# Altium footprint library Con 050 DSubminiature.PcbLib: 112 footprints (part 1 of 7)
Each footprint in its own frame and in the unit in brackets; x right, y up, seen from the top. Pads: shape width x height; smd on the part's side, far side on the other; paste and mask are expansions set on the pad; w line width, h text height; cw(c..) or ccw(c..) is an arc to the next point about the centre after c.
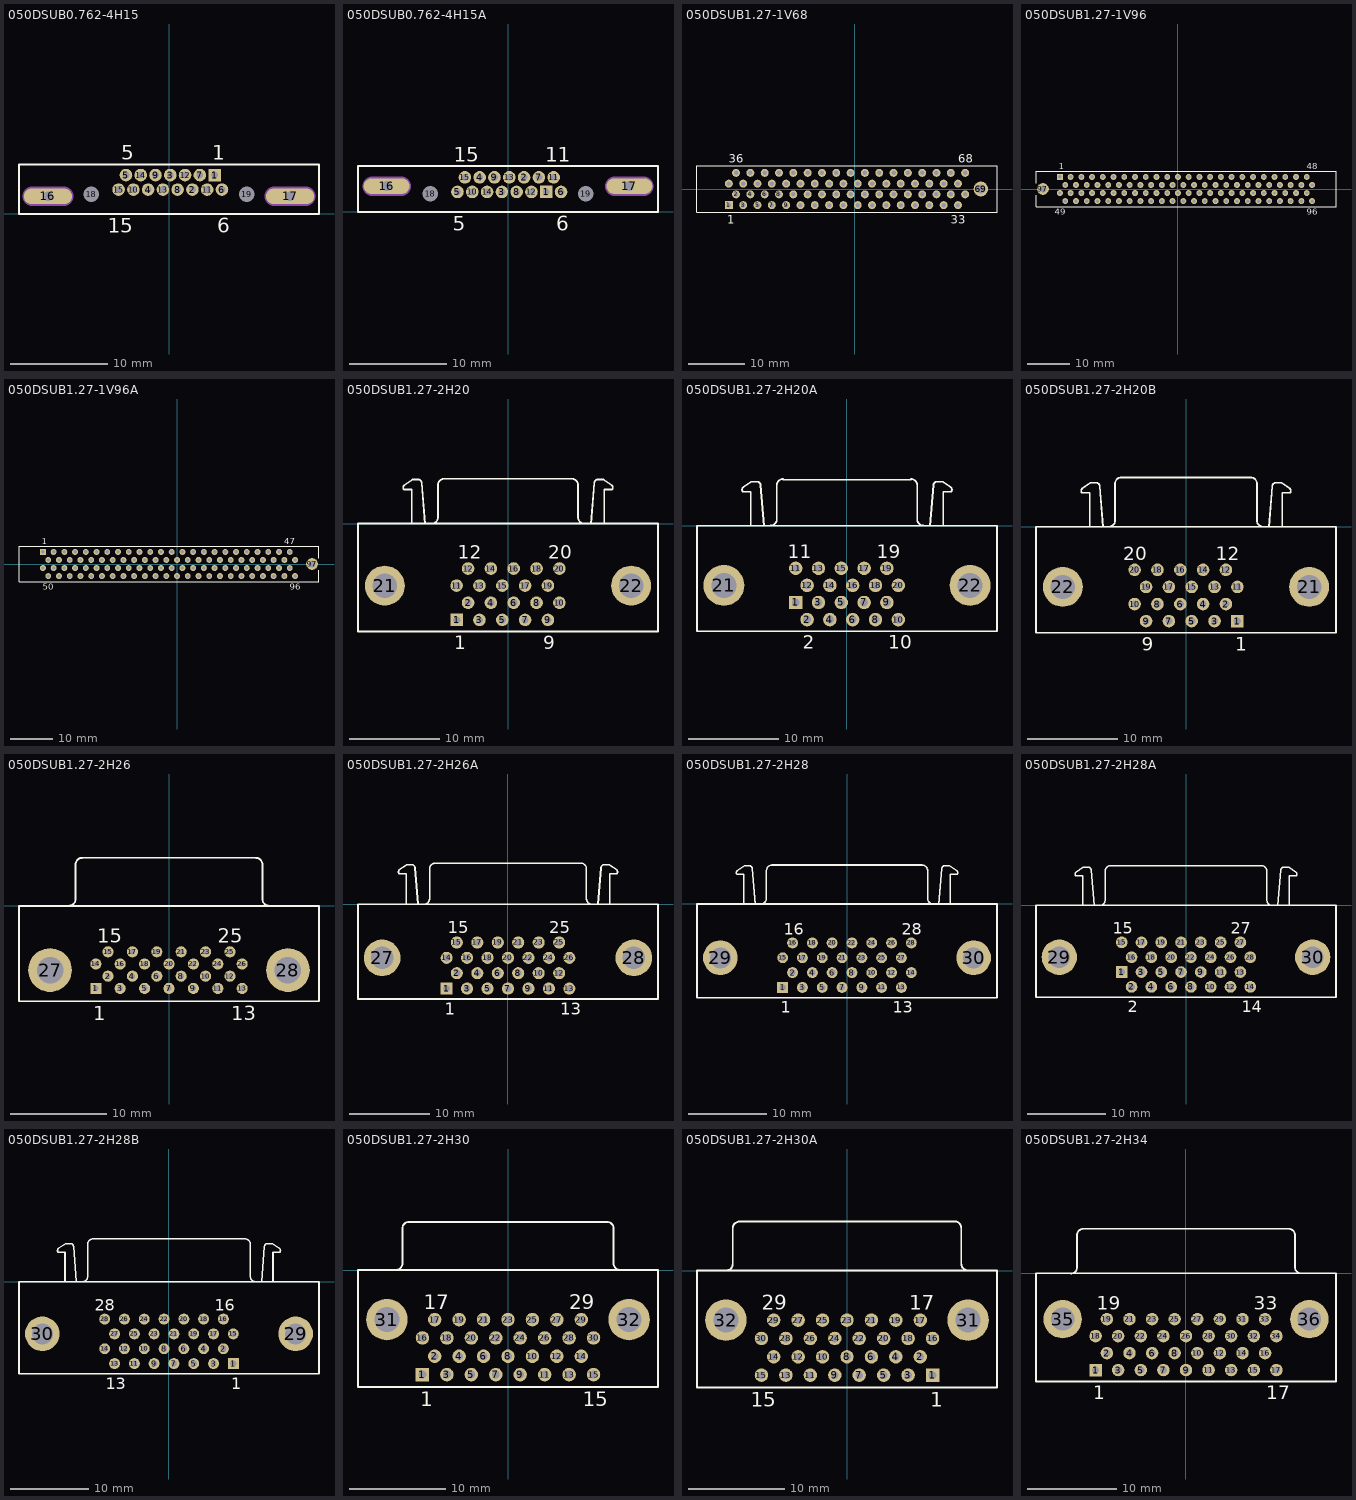
[diagram p0: the footprints below, top view; thin cyan lines are the x and y axes]

## 050DSUB0.762-4H15 [mm] "Connector; D Subminiature 050 Series; 15 Position; Right Angle"
height 12.65
pads (19):
  rect 1.3x1.3 hole 0.7: 1(4.703,4)
  round 1.3 hole 0.7: 2(2.417,2.5) 3(0.131,4) 4(-2.155,2.5) 5(-4.441,4) 6(5.465,2.5) 7(3.179,4) 8(0.893,2.5) 9(-1.393,4) 10(-3.679,2.5) 11(3.941,2.5) 12(1.655,4) 13(-0.631,2.5) 14(-2.917,4) 15(-5.203,2.5)
  oval 5x1.6 hole 1: 16(-12.495,1.8) 17(12.495,1.8)
  round 1.3 hole 1.6: 18(-8,2) 19(8,2)
Top Overlay:
  lines w0.2: -15.48,0 15.48,0 15.48,5.1 -15.48,5.1 -15.48,0
  text "15" at -6.328,-1.975 h1.5
  text "6" at 4.965,-1.975 h1.5
  text "1" at 4.453,5.6 h1.5
  text "5" at -4.941,5.6 h1.5
Mechanical 1:
  lines w1.2: -14.12,1.8 -10.87,1.8 ; 10.87,1.8 14.12,1.8
  text "Alert PCB fab to slot details" at -15.505,-1.17 h0.3
  text "Slot 1.2x4.45mm, PTH" at -15.505,-1.67 h0.3
  text "Assign keep-out area to slot" at -15.505,-0.67 h0.3
  text "Mech 1 - Slot cut-out" at -15.505,-2.17 h0.3
  text "Mech 2 - Clearance, move to internal plane if present" at -15.505,-2.67 h0.3
Mechanical 2:
  lines w2.016: -14.12,1.8 -10.87,1.8 ; 10.87,1.8 14.12,1.8

## 050DSUB0.762-4H15A [mm] "Connector; D Subminiature 050 Series; 15 Position; Right Angle"
height 12.57
pads (19):
  rect 1.3x1.3 hole 0.7: 1(3.941,2.05)
  round 1.3 hole 0.7: 2(1.655,3.55) 3(-0.631,2.05) 4(-2.917,3.55) 5(-5.203,2.05) 6(5.465,2.05) 7(3.179,3.55) 8(0.893,2.05) 9(-1.393,3.55) 10(-3.679,2.05) 11(4.703,3.55) 12(2.417,2.05) 13(0.131,3.55) 14(-2.155,2.05) 15(-4.441,3.55)
  oval 4.75x1.6 hole 1: 16(-12.495,2.65) 17(12.495,2.65)
  round 1.3 hole 1.6: 18(-7.986,1.85) 19(7.994,1.85)
Top Overlay:
  lines w0.2: -15.45,0 15.45,0 15.45,4.7 -15.45,4.7 -15.45,0
  text "5" at -5.703,-1.975 h1.5
  text "6" at 4.965,-1.975 h1.5
  text "15" at -5.566,5.175 h1.5
  text "11" at 3.828,5.175 h1.5
Mechanical 1:
  lines w1.2: -13.995,2.65 -10.995,2.65 ; 10.995,2.65 13.995,2.65
  text "Alert PCB fab to slot details" at -15.491,-1.32 h0.3
  text "Slot 1.2x4.2mm, PTH" at -15.491,-1.82 h0.3
  text "Assign keep-out area to slot" at -15.491,-0.82 h0.3
  text "Mech 1 - Slot cut-out" at -15.491,-2.32 h0.3
  text "Mech 2 - Clearance, move to internal plane if present" at -15.491,-2.82 h0.3
Mechanical 2:
  lines w2.016: -13.995,2.65 -10.995,2.65 ; 10.995,2.65 13.995,2.65

## 050DSUB1.27-1V68 [mm]
pads (69):
  rect 1.4x1.4 hole 0.8: 1(-22.35,-2.857)
  round 1.4 hole 0.8: 2(-21.08,-0.953) 3(-19.81,-2.857) 4(-18.54,-0.953) 5(-17.27,-2.857) 6(-16,-0.953) 7(-14.73,-2.857) 8(-13.46,-0.953) 9(-12.19,-2.857) 10(-10.92,-0.953) 11(-9.65,-2.857) 12(-8.38,-0.953) 13(-7.11,-2.857) 14(-5.84,-0.953) 15(-4.57,-2.857) 16(-3.3,-0.953) 17(-2.03,-2.857) 18(-0.76,-0.953) 19(0.51,-2.857) 20(1.78,-0.953) 21(3.05,-2.857) 22(4.32,-0.953) 23(5.59,-2.857) 24(6.86,-0.953) 25(8.13,-2.857) 26(9.4,-0.953) 27(10.67,-2.857) 28(11.94,-0.953) 29(13.21,-2.857) 30(14.48,-0.953) 31(15.75,-2.857) 32(17.02,-0.953) 33(18.29,-2.857) 34(19.56,-0.953) 35(-22.35,0.953) 36(-21.08,2.857) 37(-19.81,0.953) 38(-18.54,2.857) 39(-17.27,0.953) 40(-16,2.857) 41(-14.73,0.953) 42(-13.46,2.857) 43(-12.19,0.953) 44(-10.92,2.857) 45(-9.65,0.953) 46(-8.38,2.857) 47(-7.11,0.953) 48(-5.84,2.857) 49(-4.57,0.953) 50(-3.3,2.857) 51(-2.03,0.953) 52(-0.76,2.857) 53(0.51,0.953) 54(1.78,2.857) 55(3.05,0.953) 56(4.32,2.857) 57(5.59,0.953) 58(6.86,2.857) 59(8.13,0.953) 60(9.4,2.857) 61(10.67,0.953) 62(11.94,2.857) 63(13.21,0.953) 64(14.48,2.857) 65(15.75,0.953) 66(17.02,2.857) 67(18.29,0.953) 68(19.56,2.857)
  round 2.6 hole 1.65: 69(22.35,0)
Top Overlay:
  lines w0.2: -28.005,-4.157 -28.005,4.157 25.215,4.157 25.215,-4.157 -28.005,-4.157
  text "36" at -22.33,4.633 h1.5
  text "1" at -22.6,-6.132 h1.5
  text "33" at 17.04,-6.132 h1.5
  text "68" at 18.31,4.633 h1.5

## 050DSUB1.27-1V96 [mm] "Connector; D Subminiature 050 Series; 96 Position; Vertical"
height 9.5
pads (97):
  rect 1.4x1.4 hole 0.8: 1(-27.845,2.857)
  round 1.4 hole 0.8: 2(-26.575,0.953) 3(-25.305,2.857) 4(-24.035,0.953) 5(-22.765,2.857) 6(-21.495,0.953) 7(-20.225,2.857) 8(-18.955,0.953) 9(-17.685,2.857) 10(-16.415,0.953) 11(-15.145,2.857) 12(-13.875,0.953) 13(-12.605,2.857) 14(-11.335,0.953) 15(-10.065,2.857) 16(-8.795,0.953) 17(-7.525,2.857) 18(-6.255,0.953) 19(-4.985,2.857) 20(-3.715,0.953) 21(-2.445,2.857) 22(-1.175,0.953) 23(0.095,2.857) 24(1.365,0.953) 25(2.635,2.857) 26(3.905,0.953) 27(5.175,2.857) 28(6.445,0.953) 29(7.715,2.857) 30(8.985,0.953) 31(10.255,2.857) 32(11.525,0.953) 33(12.795,2.857) 34(14.065,0.953) 35(15.335,2.857) 36(16.605,0.953) 37(17.875,2.857) 38(19.145,0.953) 39(20.415,2.857) 40(21.685,0.953) 41(22.955,2.857) 42(24.225,0.953) 43(25.495,2.857) 44(26.765,0.953) 45(28.035,2.857) 46(29.305,0.953) 47(30.575,2.857) 48(31.845,0.953) 49(-27.845,-0.953) 50(-26.575,-2.857) 51(-25.305,-0.953) 52(-24.035,-2.857) 53(-22.765,-0.953) 54(-21.495,-2.857) 55(-20.225,-0.953) 56(-18.955,-2.857) 57(-17.685,-0.953) 58(-16.415,-2.857) 59(-15.145,-0.953) 60(-13.875,-2.857) 61(-12.605,-0.953) 62(-11.335,-2.857) 63(-10.065,-0.953) 64(-8.795,-2.857) 65(-7.525,-0.953) 66(-6.255,-2.857) 67(-4.985,-0.953) 68(-3.715,-2.857) 69(-2.445,-0.953) 70(-1.175,-2.857) 71(0.095,-0.953) 72(1.365,-2.857) 73(2.635,-0.953) 74(3.905,-2.857) 75(5.175,-0.953) 76(6.445,-2.857) 77(7.715,-0.953) 78(8.985,-2.857) 79(10.255,-0.953) 80(11.525,-2.857) 81(12.795,-0.953) 82(14.065,-2.857) 83(15.335,-0.953) 84(16.605,-2.857) 85(17.875,-0.953) 86(19.145,-2.857) 87(20.415,-0.953) 88(21.685,-2.857) 89(22.955,-0.953) 90(24.225,-2.857) 91(25.495,-0.953) 92(26.765,-2.857) 93(28.035,-0.953) 94(29.305,-2.857) 95(30.575,-0.953) 96(31.845,-2.857)
  round 2.8 hole 1.7: 97(-31.845,0)
Top Overlay:
  lines w0.2: -33.5,-1.45 -33.5,-4.157 37.5,-4.157 37.5,4.157 -33.5,4.157 -33.5,1.411
  text "49" at -29.095,-6.132 h1.5
  text "1" at -28.095,4.633 h1.5
  text "48" at 30.595,4.633 h1.5
  text "96" at 30.595,-6.132 h1.5

## 050DSUB1.27-1V96A [mm] "Connector; D Subminiature 050 Series; 96 Position; Vertical"
height 9.5
pads (97):
  rect 1.4x1.4 hole 0.8: 1(-31.845,2.857)
  round 1.4 hole 0.8: 2(-30.575,0.953) 3(-29.305,2.857) 4(-28.035,0.953) 5(-26.765,2.857) 6(-25.495,0.953) 7(-24.225,2.857) 8(-22.955,0.953) 9(-21.685,2.857) 10(-20.415,0.953) 11(-19.145,2.857) 12(-17.875,0.953) 13(-16.605,2.857) 14(-15.335,0.953) 15(-14.065,2.857) 16(-12.795,0.953) 17(-11.525,2.857) 18(-10.255,0.953) 19(-8.985,2.857) 20(-7.715,0.953) 21(-6.445,2.857) 22(-5.175,0.953) 23(-3.905,2.857) 24(-2.635,0.953) 25(-1.365,2.857) 26(-0.095,0.953) 27(1.175,2.857) 28(2.445,0.953) 29(3.715,2.857) 30(4.985,0.953) 31(6.255,2.857) 32(7.525,0.953) 33(8.795,2.857) 34(10.065,0.953) 35(11.335,2.857) 36(12.605,0.953) 37(13.875,2.857) 38(15.145,0.953) 39(16.415,2.857) 40(17.685,0.953) 41(18.955,2.857) 42(20.225,0.953) 43(21.495,2.857) 44(22.765,0.953) 45(24.035,2.857) 46(25.305,0.953) 47(26.575,2.857) 48(27.845,0.953) 49(-31.845,-0.953) 50(-30.575,-2.857) 51(-29.305,-0.953) 52(-28.035,-2.857) 53(-26.765,-0.953) 54(-25.495,-2.857) 55(-24.225,-0.953) 56(-22.955,-2.857) 57(-21.685,-0.953) 58(-20.415,-2.857) 59(-19.145,-0.953) 60(-17.875,-2.857) 61(-16.605,-0.953) 62(-15.335,-2.857) 63(-14.065,-0.953) 64(-12.795,-2.857) 65(-11.525,-0.953) 66(-10.255,-2.857) 67(-8.985,-0.953) 68(-7.715,-2.857) 69(-6.445,-0.953) 70(-5.175,-2.857) 71(-3.905,-0.953) 72(-2.635,-2.857) 73(-1.365,-0.953) 74(-0.095,-2.857) 75(1.175,-0.953) 76(2.445,-2.857) 77(3.715,-0.953) 78(4.985,-2.857) 79(6.255,-0.953) 80(7.525,-2.857) 81(8.795,-0.953) 82(10.065,-2.857) 83(11.335,-0.953) 84(12.605,-2.857) 85(13.875,-0.953) 86(15.145,-2.857) 87(16.415,-0.953) 88(17.685,-2.857) 89(18.955,-0.953) 90(20.225,-2.857) 91(21.495,-0.953) 92(22.765,-2.857) 93(24.035,-0.953) 94(25.305,-2.857) 95(26.575,-0.953) 96(27.845,-2.857)
  round 2.8 hole 1.7: 97(31.845,0)
Top Overlay:
  lines w0.2: 33.5,-1.45 33.5,-4.157 -37.5,-4.157 -37.5,4.157 33.5,4.157 33.5,1.411
  text "47" at 25.325,4.633 h1.5
  text "50" at -31.825,-6.132 h1.5
  text "96" at 26.595,-6.132 h1.5
  text "1" at -32.095,4.633 h1.5

## 050DSUB1.27-2H20 [mm] "Connector; D Subminiature 050 Series; 20 Position; Right Angle"
height 10.55
pads (22):
  rect 1.4x1.4 hole 0.8: 1(-5.715,-10.715)
  round 1.4 hole 0.8: 2(-4.445,-8.81) 3(-3.175,-10.715) 4(-1.905,-8.81) 5(-0.635,-10.715) 6(0.635,-8.81) 7(1.905,-10.715) 8(3.175,-8.81) 9(4.445,-10.715) 10(5.715,-8.81) 11(-5.715,-6.905) 12(-4.445,-5) 13(-3.175,-6.905) 14(-1.905,-5) 15(-0.635,-6.905) 16(0.635,-5) 17(1.905,-6.905) 18(3.175,-5) 19(4.445,-6.905) 20(5.715,-5)
  round 4.45 hole 2.7: 21(-13.715,-6.905) 22(13.715,-6.905)
Top Overlay:
  lines w0.2: -11.575,4.27 -10.635,4.898 -9.913,4.898 cw(c-10.015,4.5) -9.605,4.5 ; -11.561,4.255 ccw(c-11.335,4.01) -11.585,3.79 -10.705,3.79 -10.705,0 ; -9.605,4.52 -9.235,0 ; -8.495,0.005 ccw(c-8.495,0.7) -7.8,0.7 -7.8,4.3 cw(c-7.105,4.3) -7.105,4.995 ; -7.105,5 7.105,5 ; 7.105,4.995 cw(c7.105,4.3) 7.8,4.3 7.8,0.7 ccw(c8.495,0.7) 8.495,0.005 ; 9.235,0 9.605,4.52 ; 9.605,4.5 cw(c10.015,4.5) 9.913,4.898 10.635,4.898 11.575,4.27 ; 10.705,0 10.705,3.79 11.585,3.79 ccw(c11.335,4.01) 11.561,4.255 ; -16.7,-12.015 -16.7,0 16.7,0 16.7,-12.015 -16.7,-12.015
  text "20" at 4.465,-3.925 h1.5
  text "12" at -5.57,-3.925 h1.5
  text "9" at 3.945,-13.99 h1.5
  text "1" at -5.965,-13.99 h1.5

## 050DSUB1.27-2H20A [mm] "Connector; D Subminiature 050 Series; 20 Position; Right Angle"
height 10.44
pads (22):
  rect 1.5x1.5 hole 0.86: 1(-5.715,-8.555)
  round 1.5 hole 0.86: 2(-4.445,-10.46) 3(-3.175,-8.555) 4(-1.905,-10.46) 5(-0.635,-8.555) 6(0.635,-10.46) 7(1.905,-8.555) 8(3.175,-10.46) 9(4.445,-8.555) 10(5.715,-10.46) 11(-5.715,-4.745) 12(-4.445,-6.65) 13(-3.175,-4.745) 14(-1.905,-6.65) 15(-0.635,-4.745) 16(0.635,-6.65) 17(1.905,-4.745) 18(3.175,-6.65) 19(4.445,-4.745) 20(5.715,-6.65)
  round 4.55 hole 2.77: 21(-13.715,-6.65) 22(13.715,-6.65)
Top Overlay:
  lines w0.2: -11.6,4.27 -10.66,4.898 -9.938,4.898 cw(c-10.04,4.5) -9.63,4.5 ; -11.586,4.255 ccw(c-11.36,4.01) -11.61,3.79 -10.73,3.79 -10.73,0 ; -9.63,4.52 -9.26,0 ; -8.52,0.005 ccw(c-8.52,0.7) -7.825,0.7 -7.825,4.5 ; -7.82,4.505 cw(c-7.125,4.505) -7.125,5.2 ; -7.125,5.11 7.125,5.11 ; 7.125,5.2 cw(c7.125,4.505) 7.82,4.505 ; 7.825,4.5 7.825,0.7 ccw(c8.52,0.7) 8.52,0.005 ; 9.26,0 9.63,4.52 ; 9.63,4.5 cw(c10.04,4.5) 9.938,4.898 10.66,4.898 11.6,4.27 ; 10.73,0 10.73,3.79 11.61,3.79 ccw(c11.36,4.01) 11.586,4.255 ; -16.71,-11.76 -16.71,0 16.71,0 16.71,-11.76 -16.71,-11.76
  text "2" at -4.945,-13.735 h1.5
  text "11" at -6.59,-3.62 h1.5
  text "19" at 3.32,-3.62 h1.5
  text "10" at 4.59,-13.735 h1.5

## 050DSUB1.27-2H20B [mm] "Connector; D Subminiature 050 Series; 20 Position; Right Angle"
height 10.55
pads (22):
  rect 1.4x1.4 hole 0.8: 1(5.715,-10.5)
  round 1.4 hole 0.8: 2(4.445,-8.595) 3(3.175,-10.5) 4(1.905,-8.595) 5(0.635,-10.5) 6(-0.635,-8.595) 7(-1.905,-10.5) 8(-3.175,-8.595) 9(-4.445,-10.5) 10(-5.715,-8.595) 11(5.715,-6.69) 12(4.445,-4.785) 13(3.175,-6.69) 14(1.905,-4.785) 15(0.635,-6.69) 16(-0.635,-4.785) 17(-1.905,-6.69) 18(-3.175,-4.785) 19(-4.445,-6.69) 20(-5.715,-4.785)
  round 4.45 hole 2.7: 21(13.715,-6.69) 22(-13.715,-6.69)
Top Overlay:
  lines w0.2: -11.575,4.27 -10.635,4.898 -9.913,4.898 cw(c-10.015,4.5) -9.605,4.5 ; -11.561,4.255 ccw(c-11.335,4.01) -11.585,3.79 -10.705,3.79 -10.705,0 ; -9.605,4.52 -9.235,0 ; -8.595,0.005 ccw(c-8.595,0.7) -7.9,0.7 -7.9,4.805 cw(c-7.205,4.805) -7.205,5.5 7.205,5.5 cw(c7.205,4.805) 7.9,4.805 7.9,0.7 ccw(c8.595,0.7) 8.595,0.005 ; 9.235,0 9.605,4.52 ; 9.605,4.5 cw(c10.015,4.5) 9.913,4.898 10.635,4.898 11.575,4.27 ; 10.705,0 10.705,3.79 11.585,3.79 ccw(c11.335,4.01) 11.561,4.255 ; -16.7,-11.8 -16.7,0 16.7,0 16.7,-11.8 -16.7,-11.8
  text "20" at -6.965,-3.71 h1.5
  text "12" at 3.32,-3.71 h1.5
  text "9" at -4.945,-13.775 h1.5
  text "1" at 5.465,-13.775 h1.5

## 050DSUB1.27-2H26 [mm] "Connector; D Subminiature 050 Series; 26 Position; Right Angle"
height 8.56
pads (28):
  rect 1.16x1.16 hole 0.56: 1(-7.62,-8.59)
  round 1.16 hole 0.56: 2(-6.35,-7.32) 3(-5.08,-8.59) 4(-3.81,-7.32) 5(-2.54,-8.59) 6(-1.27,-7.32) 7(0,-8.59) 8(1.27,-7.32) 9(2.54,-8.59) 10(3.81,-7.32) 11(5.08,-8.59) 12(6.35,-7.32) 13(7.62,-8.59) 14(-7.62,-6.05) 15(-6.35,-4.78) 16(-5.08,-6.05) 17(-3.81,-4.78) 18(-2.54,-6.05) 19(-1.27,-4.78) 20(0,-6.05) 21(1.27,-4.78) 22(2.54,-6.05) 23(3.81,-4.78) 24(5.08,-6.05) 25(6.35,-4.78) 26(7.62,-6.05)
  round 4.55 hole 2.77: 27(-12.385,-6.685) 28(12.385,-6.685)
Top Overlay:
  lines w0.2: -10.425,0.015 ccw(c-10.425,0.71) -9.73,0.71 -9.73,4.31 cw(c-9.035,4.31) -9.035,5.005 ; -9.035,5.01 9.035,5.01 ; 9.035,5.005 cw(c9.035,4.31) 9.73,4.31 9.73,0.71 ccw(c10.425,0.71) 10.425,0.015 ; -15.62,-9.93 -15.62,0 15.62,0 15.62,-9.93 -15.62,-9.93
  text "1" at -7.87,-11.905 h1.5
  text "13" at 6.495,-11.905 h1.5
  text "15" at -7.475,-3.825 h1.5
  text "25" at 5.1,-3.825 h1.5

## 050DSUB1.27-2H26A [mm] "Connector; D Subminiature 050 Series; 26 Position; Right Angle"
height 10.44
pads (28):
  rect 1.5x1.5 hole 0.86: 1(-7.62,-10.46)
  round 1.5 hole 0.86: 2(-6.35,-8.555) 3(-5.08,-10.46) 4(-3.81,-8.555) 5(-2.54,-10.46) 6(-1.27,-8.555) 7(0,-10.46) 8(1.27,-8.555) 9(2.54,-10.46) 10(3.81,-8.555) 11(5.08,-10.46) 12(6.35,-8.555) 13(7.62,-10.46) 14(-7.62,-6.65) 15(-6.35,-4.745) 16(-5.08,-6.65) 17(-3.81,-4.745) 18(-2.54,-6.65) 19(-1.27,-4.745) 20(0,-6.65) 21(1.27,-4.745) 22(2.54,-6.65) 23(3.81,-4.745) 24(5.08,-6.65) 25(6.35,-4.745) 26(7.62,-6.65)
  round 4.55 hole 2.77: 27(-15.62,-6.65) 28(15.62,-6.65)
Top Overlay:
  lines w0.2: -13.505,4.27 -12.565,4.898 -11.843,4.898 cw(c-11.945,4.5) -11.535,4.5 ; -13.491,4.255 ccw(c-13.265,4.01) -13.515,3.79 -12.635,3.79 -12.635,0 ; -11.535,4.52 -11.165,0 ; -10.425,0.005 ccw(c-10.425,0.7) -9.73,0.7 -9.73,4.4 cw(c-9.035,4.4) -9.035,5.095 ; -9.035,5.11 9.035,5.11 ; 9.035,5.105 cw(c9.035,4.41) 9.73,4.41 9.73,0.7 ccw(c10.425,0.7) 10.425,0.005 ; 11.165,0 11.535,4.52 ; 11.535,4.5 cw(c11.945,4.5) 11.843,4.898 12.565,4.898 13.505,4.27 ; 12.635,0 12.635,3.79 13.515,3.79 ccw(c13.265,4.01) 13.491,4.255 ; -18.615,-11.76 -18.615,0 18.615,0 18.615,-11.76 -18.615,-11.76
  text "25" at 5.1,-3.62 h1.5
  text "15" at -7.475,-3.62 h1.5
  text "13" at 6.495,-13.735 h1.5
  text "1" at -7.87,-13.735 h1.5

## 050DSUB1.27-2H28 [mm] "Connector; D Subminiature 050 Series; 28 Position; Right Angle"
height 10.55
pads (30):
  rect 1.4x1.4 hole 0.8: 1(-8.255,-10.715)
  round 1.4 hole 0.8: 2(-6.985,-8.81) 3(-5.715,-10.715) 4(-4.445,-8.81) 5(-3.175,-10.715) 6(-1.905,-8.81) 7(-0.635,-10.715) 8(0.635,-8.81) 9(1.905,-10.715) 10(3.175,-8.81) 11(4.445,-10.715) 12(5.715,-8.81) 13(6.985,-10.715) 14(8.255,-8.81) 15(-8.255,-6.905) 16(-6.985,-5) 17(-5.715,-6.905) 18(-4.445,-5) 19(-3.175,-6.905) 20(-1.905,-5) 21(-0.635,-6.905) 22(0.635,-5) 23(1.905,-6.905) 24(3.175,-5) 25(4.445,-6.905) 26(5.715,-5) 27(6.985,-6.905) 28(8.255,-5)
  round 4.45 hole 2.7: 29(-16.255,-6.905) 30(16.255,-6.905)
Top Overlay:
  lines w0.2: -14.115,4.27 -13.175,4.898 -12.453,4.898 cw(c-12.555,4.5) -12.145,4.5 ; -14.101,4.255 ccw(c-13.875,4.01) -14.125,3.79 -13.245,3.79 -13.245,0 ; -12.145,4.52 -11.775,0 ; -11.035,0.005 ccw(c-11.035,0.7) -10.34,0.7 -10.34,4.305 ; -10.335,4.305 cw(c-9.64,4.305) -9.64,5 9.645,5 cw(c9.645,4.305) 10.34,4.305 10.34,0.7 ccw(c11.035,0.7) 11.035,0.005 ; 11.78,0 12.15,4.52 ; 12.15,4.5 cw(c12.56,4.5) 12.458,4.898 13.18,4.898 14.12,4.27 ; 13.25,0 13.25,3.79 14.13,3.79 ccw(c13.88,4.01) 14.106,4.255 ; -19.25,-12.015 -19.25,0 19.25,0 19.25,-12.015 -19.25,-12.015
  text "16" at -8.11,-3.925 h1.5
  text "28" at 7.005,-3.925 h1.5
  text "1" at -8.505,-13.99 h1.5
  text "13" at 5.86,-13.99 h1.5

## 050DSUB1.27-2H28A [mm] "Connector; D Subminiature 050 Series; 28 Position; Right Angle"
height 10.44
pads (30):
  rect 1.5x1.5 hole 0.86: 1(-8.255,-8.555)
  round 1.5 hole 0.86: 2(-6.985,-10.46) 3(-5.715,-8.555) 4(-4.445,-10.46) 5(-3.175,-8.555) 6(-1.905,-10.46) 7(-0.635,-8.555) 8(0.635,-10.46) 9(1.905,-8.555) 10(3.175,-10.46) 11(4.445,-8.555) 12(5.715,-10.46) 13(6.985,-8.555) 14(8.255,-10.46) 15(-8.255,-4.745) 16(-6.985,-6.65) 17(-5.715,-4.745) 18(-4.445,-6.65) 19(-3.175,-4.745) 20(-1.905,-6.65) 21(-0.635,-4.745) 22(0.635,-6.65) 23(1.905,-4.745) 24(3.175,-6.65) 25(4.445,-4.745) 26(5.715,-6.65) 27(6.985,-4.745) 28(8.255,-6.65)
  round 4.55 hole 2.77: 29(-16.255,-6.65) 30(16.255,-6.65)
Top Overlay:
  lines w0.2: -14.14,4.27 -13.2,4.898 -12.478,4.898 cw(c-12.58,4.5) -12.17,4.5 ; -14.126,4.255 ccw(c-13.9,4.01) -14.15,3.79 -13.27,3.79 -13.27,0 ; -12.17,4.52 -11.8,0 ; -11.06,0.005 ccw(c-11.06,0.7) -10.365,0.7 -10.365,4.41 cw(c-9.67,4.41) -9.67,5.105 ; -9.67,5.11 9.67,5.11 ; 9.67,5.105 cw(c9.67,4.41) 10.365,4.41 10.365,0.7 ccw(c11.06,0.7) 11.06,0.005 ; 11.8,0 12.17,4.52 ; 12.17,4.5 cw(c12.58,4.5) 12.478,4.898 13.2,4.898 14.14,4.27 ; 13.27,0 13.27,3.79 14.15,3.79 ccw(c13.9,4.01) 14.126,4.255 ; -19.25,-11.76 -19.25,0 19.25,0 19.25,-11.76 -19.25,-11.76
  text "27" at 5.735,-3.62 h1.5
  text "15" at -9.38,-3.62 h1.5
  text "14" at 7.13,-13.735 h1.5
  text "2" at -7.485,-13.735 h1.5

## 050DSUB1.27-2H28B [mm] "Connector; D Subminiature 050 Series; 28 Position; Right Angle"
height 10.55
pads (30):
  rect 1.4x1.4 hole 0.8: 1(8.255,-10.5)
  round 1.4 hole 0.8: 2(6.985,-8.595) 3(5.715,-10.5) 4(4.445,-8.595) 5(3.175,-10.5) 6(1.905,-8.595) 7(0.635,-10.5) 8(-0.635,-8.595) 9(-1.905,-10.5) 10(-3.175,-8.595) 11(-4.445,-10.5) 12(-5.715,-8.595) 13(-6.985,-10.5) 14(-8.255,-8.595) 15(8.255,-6.69) 16(6.985,-4.785) 17(5.715,-6.69) 18(4.445,-4.785) 19(3.175,-6.69) 20(1.905,-4.785) 21(0.635,-6.69) 22(-0.635,-4.785) 23(-1.905,-6.69) 24(-3.175,-4.785) 25(-4.445,-6.69) 26(-5.715,-4.785) 27(-6.985,-6.69) 28(-8.255,-4.785)
  round 4.45 hole 2.7: 29(16.255,-6.69) 30(-16.255,-6.69)
Top Overlay:
  lines w0.2: -14.22,4.27 -13.28,4.898 -12.558,4.898 cw(c-12.66,4.5) -12.25,4.5 ; -14.206,4.255 ccw(c-13.98,4.01) -14.23,3.79 -13.35,3.79 -13.35,0 ; -12.25,4.52 -11.88,0 ; -11.135,0.005 ccw(c-11.135,0.7) -10.44,0.7 -10.44,4.805 cw(c-9.745,4.805) -9.745,5.5 9.745,5.5 cw(c9.745,4.805) 10.44,4.805 10.44,0.7 ccw(c11.135,0.7) 11.135,0.005 ; 11.875,0 12.245,4.52 ; 12.245,4.5 cw(c12.655,4.5) 12.553,4.898 13.275,4.898 14.215,4.27 ; 13.345,0 13.345,3.79 14.225,3.79 ccw(c13.975,4.01) 14.201,4.255 ; -19.25,-11.8 -19.25,0 19.25,0 19.25,-11.8 -19.25,-11.8
  text "16" at 5.86,-3.71 h1.5
  text "28" at -9.505,-3.71 h1.5
  text "1" at 8.005,-13.775 h1.5
  text "13" at -8.11,-13.775 h1.5

## 050DSUB1.27-2H30 [mm] "Connector; D Subminiature 050 Series; 30 Position; Right Angle"
height 8.1
pads (32):
  rect 1.4x1.4 hole 0.8: 1(-8.89,-10.87)
  round 1.4 hole 0.8: 2(-7.62,-8.965) 3(-6.35,-10.87) 4(-5.08,-8.965) 5(-3.81,-10.87) 6(-2.54,-8.965) 7(-1.27,-10.87) 8(0,-8.965) 9(1.27,-10.87) 10(2.54,-8.965) 11(3.81,-10.87) 12(5.08,-8.965) 13(6.35,-10.87) 14(7.62,-8.965) 15(8.89,-10.87) 16(-8.89,-7.06) 17(-7.62,-5.155) 18(-6.35,-7.06) 19(-5.08,-5.155) 20(-3.81,-7.06) 21(-2.54,-5.155) 22(-1.27,-7.06) 23(0,-5.155) 24(1.27,-7.06) 25(2.54,-5.155) 26(3.81,-7.06) 27(5.08,-5.155) 28(6.35,-7.06) 29(7.62,-5.155) 30(8.89,-7.06)
  round 4.3 hole 2.6: 31(-12.59,-5.155) 32(12.59,-5.155)
Top Overlay:
  lines w0.2: -11.67,0 ccw(c-11.67,0.695) -10.975,0.695 ; -10.975,0.715 -10.975,4.305 cw(c-10.28,4.305) -10.28,5 10.28,5 cw(c10.28,4.305) 10.975,4.305 ; 10.975,4.495 10.975,0.695 ccw(c11.67,0.695) 11.67,0 ; -15.59,-12.17 -15.59,0 15.59,0 15.59,-12.17 -15.59,-12.17
  text "17" at -8.745,-4.08 h1.5
  text "29" at 6.37,-4.08 h1.5
  text "1" at -9.14,-14.145 h1.5
  text "15" at 7.765,-14.145 h1.5

## 050DSUB1.27-2H30A [mm] "Connector; D Subminiature 050 Series; 30 Position; Right Angle"
height 8.1
pads (32):
  rect 1.4x1.4 hole 0.8: 1(8.89,-10.87)
  round 1.4 hole 0.8: 2(7.62,-8.965) 3(6.35,-10.87) 4(5.08,-8.965) 5(3.81,-10.87) 6(2.54,-8.965) 7(1.27,-10.87) 8(0,-8.965) 9(-1.27,-10.87) 10(-2.54,-8.965) 11(-3.81,-10.87) 12(-5.08,-8.965) 13(-6.35,-10.87) 14(-7.62,-8.965) 15(-8.89,-10.87) 16(8.89,-7.06) 17(7.62,-5.155) 18(6.35,-7.06) 19(5.08,-5.155) 20(3.81,-7.06) 21(2.54,-5.155) 22(1.27,-7.06) 23(0,-5.155) 24(-1.27,-7.06) 25(-2.54,-5.155) 26(-3.81,-7.06) 27(-5.08,-5.155) 28(-6.35,-7.06) 29(-7.62,-5.155) 30(-8.89,-7.06)
  round 4.3 hole 2.6: 31(12.59,-5.155) 32(-12.59,-5.155)
Top Overlay:
  lines w0.2: -12.57,0 ccw(c-12.57,0.695) -11.875,0.695 -11.875,4.395 cw(c-11.18,4.395) -11.18,5.09 ; -11.18,5.1 11.185,5.1 ; 11.18,5.11 cw(c11.18,4.415) 11.875,4.415 11.875,0.715 ccw(c12.57,0.715) 12.57,0.02 ; -15.59,-12.17 15.59,-12.17 15.59,0 -15.59,0 -15.59,-12.17
  text "15" at -10.015,-14.145 h1.5
  text "1" at 8.64,-14.145 h1.5
  text "29" at -8.87,-4.08 h1.5
  text "17" at 6.495,-4.08 h1.5

## 050DSUB1.27-2H34 [mm] "Connector; D Subminiature 050 Series; 34 Position; Right Angle"
height 8.1
pads (36):
  rect 1.4x1.4 hole 0.8: 1(-10.16,-10.87)
  round 1.4 hole 0.8: 2(-8.89,-8.965) 3(-7.62,-10.87) 4(-6.35,-8.965) 5(-5.08,-10.87) 6(-3.81,-8.965) 7(-2.54,-10.87) 8(-1.27,-8.965) 9(0,-10.87) 10(1.27,-8.965) 11(2.54,-10.87) 12(3.81,-8.965) 13(5.08,-10.87) 14(6.35,-8.965) 15(7.62,-10.87) 16(8.89,-8.965) 17(10.16,-10.87) 18(-10.16,-7.06) 19(-8.89,-5.155) 20(-7.62,-7.06) 21(-6.35,-5.155) 22(-5.08,-7.06) 23(-3.81,-5.155) 24(-2.54,-7.06) 25(-1.27,-5.155) 26(0,-7.06) 27(1.27,-5.155) 28(2.54,-7.06) 29(3.81,-5.155) 30(5.08,-7.06) 31(6.35,-5.155) 32(7.62,-7.06) 33(8.89,-5.155) 34(10.16,-7.06)
  round 4.3 hole 2.6: 35(-13.86,-5.155) 36(13.86,-5.155)
Top Overlay:
  lines w0.2: -12.94,-0.02 ccw(c-12.94,0.675) -12.245,0.675 -12.245,4.305 cw(c-11.55,4.305) -11.55,5 11.5,5 ; 11.55,5 cw(c11.55,4.305) 12.245,4.305 12.245,0.695 ccw(c12.94,0.695) 12.94,0 ; -16.86,-12.17 -16.86,0 16.86,0 16.86,-12.17 -16.86,-12.17
  text "17" at 9.035,-14.145 h1.5
  text "1" at -10.41,-14.145 h1.5
  text "33" at 7.64,-4.08 h1.5
  text "19" at -10.015,-4.08 h1.5